# EAGLE library part OSM_1.2_SIZE_S (library Bauteile)
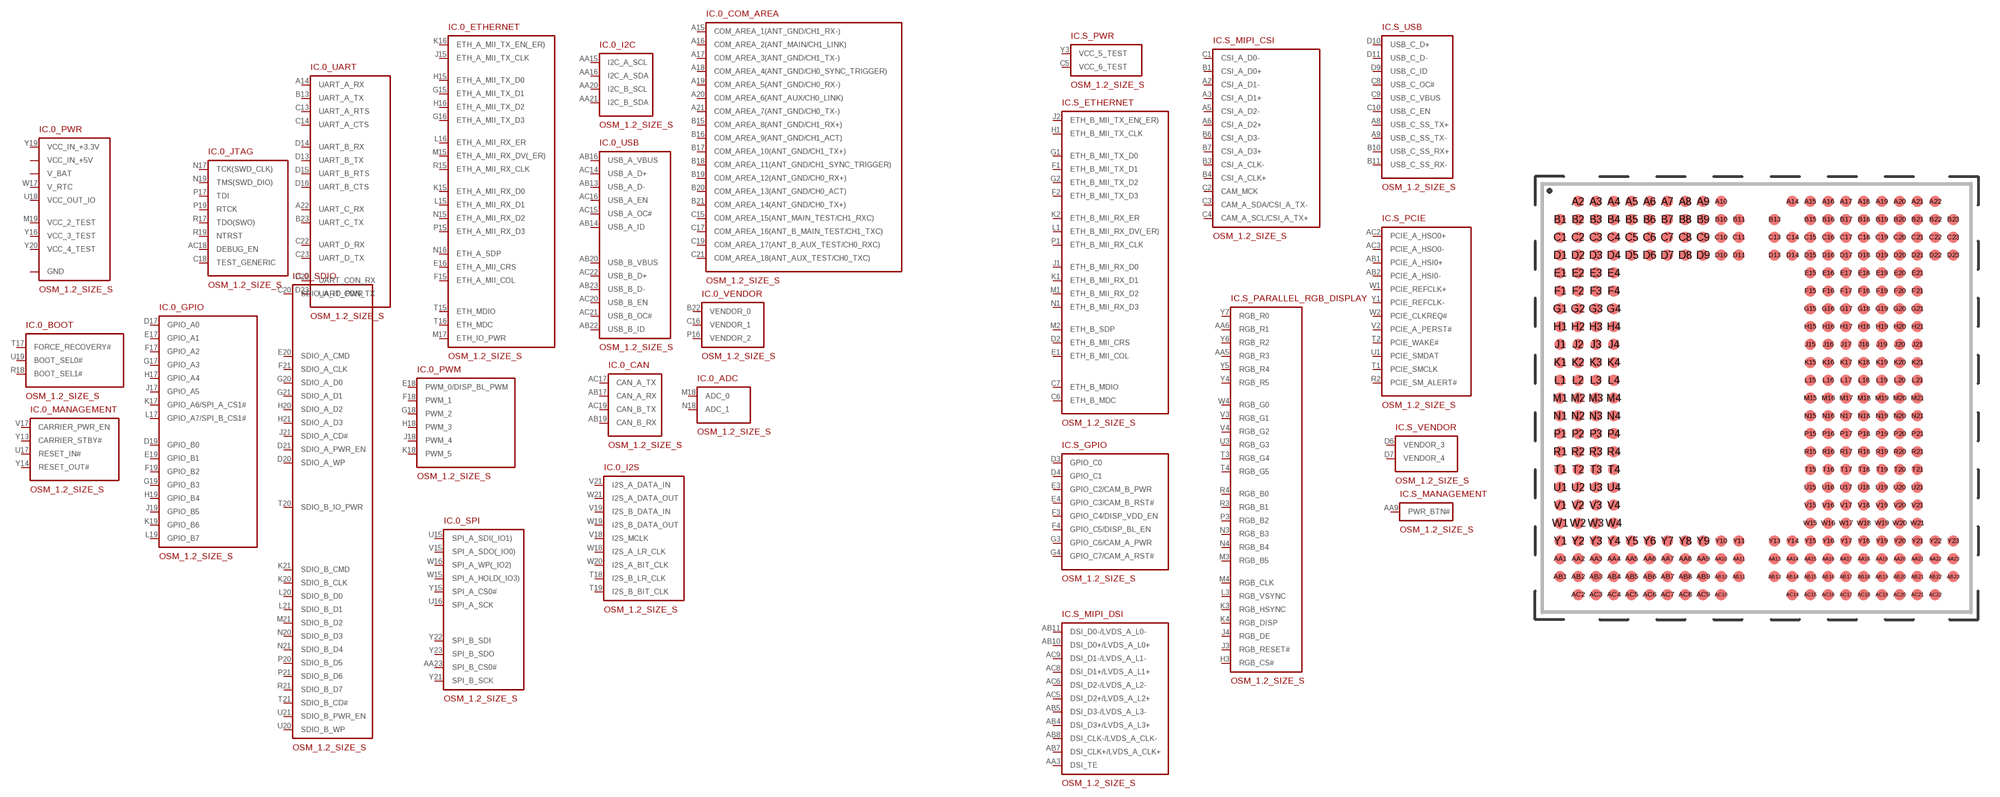
[diagram p210: symbol with the pads of OSM_1.2_SIZE_S; footprint OSM_1.2_SIZE_S]

Designator prefix IC; gates .0_PWR=OSM_1.2_SIZE_0_POWER .0_BOOT=OSM_1.2_SIZE_0_BOOT .0_JTAG=OSM_1.2_SIZE_0_JTAG .0_UART=OSM_1.2_SIZE_0_UART .0_ETHERNET=OSM_1.2_SIZE_0_ETHERNET .0_GPIO=OSM_1.2_SIZE_0_GPIO .0_SDIO=OSM_1.2_SIZE_0_SDIO .0_PWM=OSM_1.2_SIZE_0_PWM .0_ADC=OSM_1.2_SIZE_0_ADC .0_SPI=OSM_1.2_SIZE_0_SPI .0_I2S=OSM_1.2_SIZE_0_I2S .0_CAN=OSM_1.2_SIZE_0_CAN .0_USB=OSM_1.2_SIZE_0_USB .0_I2C=OSM_1.2_SIZE_0_I2C .0_COM_AREA=OSM_1.2_SIZE_0_COM_AREA .0_VENDOR=OSM_1.2_SIZE_0_VENDOR .0_MANAGEMENT=OSM_1.2_SIZE_0_MANAGEMENT .S_PWR=OSM_1.2_SIZE_S_POWER .S_ETHERNET=OSM_1.2_SIZE_S_ETHERNET .S_GPIO=OSM_1.2_SIZE_S_GPIO .S_MIPI_DSI=OSM_1.2_SIZE_S_MIPI_DSI .S_MIPI_CSI=OSM_1.2_SIZE_S_MIPI_CSI .S_PARALLEL_RGB_DISPLAY=OSM_1.2_SIZE_S_PARALLEL_RGB_DISPLAY .S_USB=OSM_1.2_SIZE_S_USB .S_PCIE=OSM_1.2_SIZE_S_PCIE .S_VENDOR=OSM_1.2_SIZE_S_VENDOR .S_MANAGEMENT=OSM_1.2_SIZE_S_MANAGEMENT

## OSM_1.2_SIZE_S  [OSM_1.2_SIZE_S]
A2  .S_MIPI_CSI:CSI_A_D1-
A3  .S_MIPI_CSI:CSI_A_D1+
A4  .0_PWR:GND
A5  .S_MIPI_CSI:CSI_A_D2-
A6  .S_MIPI_CSI:CSI_A_D2+
A7  .0_PWR:GND
A8  .S_USB:USB_C_SS_TX+
A9  .S_USB:USB_C_SS_TX-
A10  .0_PWR:GND
A14  .0_UART:UART_A_RX
A15  .0_COM_AREA:COM_AREA_1(ANT_GND/CH1_RX-)
A16  .0_COM_AREA:COM_AREA_2(ANT_MAIN/CH1_LINK)
A17  .0_COM_AREA:COM_AREA_3(ANT_GND/CH1_TX-)
A18  .0_COM_AREA:COM_AREA_4(ANT_GND/CH0_SYNC_TRIGGER)
A19  .0_COM_AREA:COM_AREA_5(ANT_GND/CH0_RX-)
A20  .0_COM_AREA:COM_AREA_6(ANT_AUX/CH0_LINK)
A21  .0_COM_AREA:COM_AREA_7(ANT_GND/CH0_TX-)
A22  .0_UART:UART_C_RX
AA1  .0_PWR:GND
AA3  .S_MIPI_DSI:DSI_TE
AA4  .0_PWR:GND
AA5  .S_PARALLEL_RGB_DISPLAY:RGB_R3
AA6  .S_PARALLEL_RGB_DISPLAY:RGB_R1
AA7  .0_PWR:GND
AA8  .0_PWR:GND
AA9  .S_MANAGEMENT:PWR_BTN#
AA10  .0_PWR:GND
AA11  .0_PWR:GND
AA14  .0_PWR:GND
AA15  .0_I2C:I2C_A_SCL
AA16  .0_I2C:I2C_A_SDA
AA17  .0_PWR:GND
AA18  .0_PWR:V_BAT
AA19  .0_PWR:GND
AA20  .0_I2C:I2C_B_SCL
AA21  .0_I2C:I2C_B_SDA
AA22  .0_PWR:GND
AA23  .0_SPI:SPI_B_CS0#
AB1  .S_PCIE:PCIE_A_HSI0+
AB2  .S_PCIE:PCIE_A_HSI0-
AB3  .0_PWR:GND
AB4  .S_MIPI_DSI:DSI_D3+/LVDS_A_L3+
AB5  .S_MIPI_DSI:DSI_D3-/LVDS_A_L3-
AB6  .0_PWR:GND
AB7  .S_MIPI_DSI:DSI_CLK+/LVDS_A_CLK+
AB8  .S_MIPI_DSI:DSI_CLK-/LVDS_A_CLK-
AB9  .0_PWR:GND
AB10  .S_MIPI_DSI:DSI_D0+/LVDS_A_L0+
AB11  .S_MIPI_DSI:DSI_D0-/LVDS_A_L0-
AB13  .0_USB:USB_A_D-
AB14  .0_USB:USB_A_ID
AB15  .0_PWR:GND
AB16  .0_USB:USB_A_VBUS
AB17  .0_CAN:CAN_A_RX
AB18  .0_PWR:V_BAT
AB19  .0_CAN:CAN_B_RX
AB20  .0_USB:USB_B_VBUS
AB21  .0_PWR:GND
AB22  .0_USB:USB_B_ID
AB23  .0_USB:USB_B_D-
AC2  .S_PCIE:PCIE_A_HSO0+
AC3  .S_PCIE:PCIE_A_HSO0-
AC4  .0_PWR:GND
AC5  .S_MIPI_DSI:DSI_D2+/LVDS_A_L2+
AC6  .S_MIPI_DSI:DSI_D2-/LVDS_A_L2-
AC7  .0_PWR:GND
AC8  .S_MIPI_DSI:DSI_D1+/LVDS_A_L1+
AC9  .S_MIPI_DSI:DSI_D1-/LVDS_A_L1-
AC10  .0_PWR:GND
AC14  .0_USB:USB_A_D+
AC15  .0_USB:USB_A_OC#
AC16  .0_USB:USB_A_EN
AC17  .0_CAN:CAN_A_TX
AC18  .0_JTAG:DEBUG_EN
AC19  .0_CAN:CAN_B_TX
AC20  .0_USB:USB_B_EN
AC21  .0_USB:USB_B_OC#
AC22  .0_USB:USB_B_D+
B1  .S_MIPI_CSI:CSI_A_D0+
B2  .0_PWR:GND
B3  .S_MIPI_CSI:CSI_A_CLK-
B4  .S_MIPI_CSI:CSI_A_CLK+
B5  .0_PWR:GND
B6  .S_MIPI_CSI:CSI_A_D3-
B7  .S_MIPI_CSI:CSI_A_D3+
B8  .0_PWR:GND
B9  .0_PWR:GND
B10  .S_USB:USB_C_SS_RX+
B11  .S_USB:USB_C_SS_RX-
B13  .0_UART:UART_A_TX
B15  .0_COM_AREA:COM_AREA_8(ANT_GND/CH1_RX+)
B16  .0_COM_AREA:COM_AREA_9(ANT_GND/CH1_ACT)
B17  .0_COM_AREA:COM_AREA_10(ANT_GND/CH1_TX+)
B18  .0_COM_AREA:COM_AREA_11(ANT_GND/CH1_SYNC_TRIGGER)
B19  .0_COM_AREA:COM_AREA_12(ANT_GND/CH0_RX+)
B20  .0_COM_AREA:COM_AREA_13(ANT_GND/CH0_ACT)
B21  .0_COM_AREA:COM_AREA_14(ANT_GND/CH0_TX+)
B22  .0_VENDOR:VENDOR_0
B23  .0_UART:UART_C_TX
C1  .S_MIPI_CSI:CSI_A_D0-
C2  .S_MIPI_CSI:CAM_MCK
C3  .S_MIPI_CSI:CAM_A_SDA/CSI_A_TX-
C4  .S_MIPI_CSI:CAM_A_SCL/CSI_A_TX+
C5  .S_PWR:VCC_6_TEST
C6  .S_ETHERNET:ETH_B_MDC
C7  .S_ETHERNET:ETH_B_MDIO
C8  .S_USB:USB_C_OC#
C9  .S_USB:USB_C_VBUS
C10  .S_USB:USB_C_EN
C11  .0_PWR:GND
C13  .0_UART:UART_A_RTS
C14  .0_UART:UART_A_CTS
C15  .0_COM_AREA:COM_AREA_15(ANT_MAIN_TEST/CH1_RXC)
C16  .0_VENDOR:VENDOR_1
C17  .0_COM_AREA:COM_AREA_16(ANT_B_MAIN_TEST/CH1_TXC)
C18  .0_JTAG:TEST_GENERIC
C19  .0_COM_AREA:COM_AREA_17(ANT_B_AUX_TEST/CH0_RXC)
C20  .0_SDIO:SDIO_A_IO_PWR
C21  .0_COM_AREA:COM_AREA_18(ANT_AUX_TEST/CH0_TXC)
C22  .0_UART:UART_D_RX
C23  .0_UART:UART_D_TX
D1  .0_PWR:GND
D2  .S_ETHERNET:ETH_B_MII_CRS
D3  .S_GPIO:GPIO_C0
D4  .S_GPIO:GPIO_C1
D5  .0_PWR:GND
D6  .S_VENDOR:VENDOR_3
D7  .S_VENDOR:VENDOR_4
D8  .0_PWR:GND
D9  .S_USB:USB_C_ID
D10  .S_USB:USB_C_D+
D11  .S_USB:USB_C_D-
D13  .0_UART:UART_B_TX
D14  .0_UART:UART_B_RX
D15  .0_UART:UART_B_RTS
D16  .0_UART:UART_B_CTS
D17  .0_GPIO:GPIO_A0
D18  .0_PWR:GND
D19  .0_GPIO:GPIO_B0
D20  .0_SDIO:SDIO_A_WP
D21  .0_SDIO:SDIO_A_PWR_EN
D22  .0_UART:UART_CON_RX
D23  .0_UART:UART_CON_TX
E1  .S_ETHERNET:ETH_B_MII_COL
E2  .0_PWR:GND
E3  .S_GPIO:GPIO_C2/CAM_B_PWR
E4  .S_GPIO:GPIO_C3/CAM_B_RST#
E15  .0_PWR:GND
E16  .0_ETHERNET:ETH_A_MII_CRS
E17  .0_GPIO:GPIO_A1
E18  .0_PWM:PWM_0/DISP_BL_PWM
E19  .0_GPIO:GPIO_B1
E20  .0_SDIO:SDIO_A_CMD
E21  .0_PWR:GND
F1  .S_ETHERNET:ETH_B_MII_TX_D1
F2  .S_ETHERNET:ETH_B_MII_TX_D3
F3  .S_GPIO:GPIO_C4/DISP_VDD_EN
F4  .S_GPIO:GPIO_C5/DISP_BL_EN
F15  .0_ETHERNET:ETH_A_MII_COL
F16  .0_PWR:GND
F17  .0_GPIO:GPIO_A2
F18  .0_PWM:PWM_1
F19  .0_GPIO:GPIO_B2
F20  .0_PWR:GND
F21  .0_SDIO:SDIO_A_CLK
G1  .S_ETHERNET:ETH_B_MII_TX_D0
G2  .S_ETHERNET:ETH_B_MII_TX_D2
G3  .S_GPIO:GPIO_C6/CAM_A_PWR
G4  .S_GPIO:GPIO_C7/CAM_A_RST#
G15  .0_ETHERNET:ETH_A_MII_TX_D1
G16  .0_ETHERNET:ETH_A_MII_TX_D3
G17  .0_GPIO:GPIO_A3
G18  .0_PWM:PWM_2
G19  .0_GPIO:GPIO_B3
G20  .0_SDIO:SDIO_A_D0
G21  .0_SDIO:SDIO_A_D1
H1  .S_ETHERNET:ETH_B_MII_TX_CLK
H2  .0_PWR:GND
H3  .S_PARALLEL_RGB_DISPLAY:RGB_CS#
H4  .0_PWR:GND
H15  .0_ETHERNET:ETH_A_MII_TX_D0
H16  .0_ETHERNET:ETH_A_MII_TX_D2
H17  .0_GPIO:GPIO_A4
H18  .0_PWM:PWM_3
H19  .0_GPIO:GPIO_B4
H20  .0_SDIO:SDIO_A_D2
H21  .0_SDIO:SDIO_A_D3
J1  .S_ETHERNET:ETH_B_MII_RX_D0
J2  .S_ETHERNET:ETH_B_MII_TX_EN(_ER)
J3  .S_PARALLEL_RGB_DISPLAY:RGB_RESET#
J4  .S_PARALLEL_RGB_DISPLAY:RGB_DE
J15  .0_ETHERNET:ETH_A_MII_TX_CLK
J16  .0_PWR:GND
J17  .0_GPIO:GPIO_A5
J18  .0_PWM:PWM_4
J19  .0_GPIO:GPIO_B5
J20  .0_PWR:GND
J21  .0_SDIO:SDIO_A_CD#
K1  .S_ETHERNET:ETH_B_MII_RX_D1
K2  .S_ETHERNET:ETH_B_MII_RX_ER
K3  .S_PARALLEL_RGB_DISPLAY:RGB_HSYNC
K4  .S_PARALLEL_RGB_DISPLAY:RGB_DISP
K15  .0_ETHERNET:ETH_A_MII_RX_D0
K16  .0_ETHERNET:ETH_A_MII_TX_EN(_ER)
K17  .0_GPIO:GPIO_A6/SPI_A_CS1#
K18  .0_PWM:PWM_5
K19  .0_GPIO:GPIO_B6
K20  .0_SDIO:SDIO_B_CLK
K21  .0_SDIO:SDIO_B_CMD
L1  .S_ETHERNET:ETH_B_MII_RX_DV(_ER)
L2  .0_PWR:GND
L3  .S_PARALLEL_RGB_DISPLAY:RGB_VSYNC
L4  .0_PWR:GND
L15  .0_ETHERNET:ETH_A_MII_RX_D1
L16  .0_ETHERNET:ETH_A_MII_RX_ER
L17  .0_GPIO:GPIO_A7/SPI_B_CS1#
L18  .0_PWR:GND
L19  .0_GPIO:GPIO_B7
L20  .0_SDIO:SDIO_B_D0
L21  .0_SDIO:SDIO_B_D1
M1  .S_ETHERNET:ETH_B_MII_RX_D2
M2  .S_ETHERNET:ETH_B_SDP
M3  .S_PARALLEL_RGB_DISPLAY:RGB_B5
M4  .S_PARALLEL_RGB_DISPLAY:RGB_CLK
M15  .0_ETHERNET:ETH_A_MII_RX_DV(_ER)
M16  .0_PWR:GND
M17  .0_ETHERNET:ETH_IO_PWR
M18  .0_ADC:ADC_0
M19  .0_PWR:VCC_2_TEST
M20  .0_PWR:GND
M21  .0_SDIO:SDIO_B_D2
N1  .S_ETHERNET:ETH_B_MII_RX_D3
N3  .S_PARALLEL_RGB_DISPLAY:RGB_B3
N4  .S_PARALLEL_RGB_DISPLAY:RGB_B4
N15  .0_ETHERNET:ETH_A_MII_RX_D2
N16  .0_ETHERNET:ETH_A_SDP
N17  .0_JTAG:TCK(SWD_CLK)
N18  .0_ADC:ADC_1
N19  .0_JTAG:TMS(SWD_DIO)
N20  .0_SDIO:SDIO_B_D3
N21  .0_SDIO:SDIO_B_D4
P1  .S_ETHERNET:ETH_B_MII_RX_CLK
P2  .0_PWR:GND
P3  .S_PARALLEL_RGB_DISPLAY:RGB_B2
P4  .0_PWR:GND
P15  .0_ETHERNET:ETH_A_MII_RX_D3
P16  .0_VENDOR:VENDOR_2
P17  .0_JTAG:TDI
P18  .0_PWR:GND
P19  .0_JTAG:RTCK
P20  .0_SDIO:SDIO_B_D5
P21  .0_SDIO:SDIO_B_D6
R1  .0_PWR:GND
R2  .S_PCIE:PCIE_SM_ALERT#
R3  .S_PARALLEL_RGB_DISPLAY:RGB_B1
R4  .S_PARALLEL_RGB_DISPLAY:RGB_B0
R15  .0_ETHERNET:ETH_A_MII_RX_CLK
R16  .0_PWR:GND
R17  .0_JTAG:TDO(SWO)
R18  .0_BOOT:BOOT_SEL1#
R19  .0_JTAG:NTRST
R20  .0_PWR:GND
R21  .0_SDIO:SDIO_B_D7
T1  .S_PCIE:PCIE_SMCLK
T2  .S_PCIE:PCIE_WAKE#
T3  .S_PARALLEL_RGB_DISPLAY:RGB_G4
T4  .S_PARALLEL_RGB_DISPLAY:RGB_G5
T15  .0_ETHERNET:ETH_MDIO
T16  .0_ETHERNET:ETH_MDC
T17  .0_BOOT:FORCE_RECOVERY#
T18  .0_I2S:I2S_B_LR_CLK
T19  .0_I2S:I2S_B_BIT_CLK
T20  .0_SDIO:SDIO_B_IO_PWR
T21  .0_SDIO:SDIO_B_CD#
U1  .S_PCIE:PCIE_SMDAT
U2  .0_PWR:GND
U3  .S_PARALLEL_RGB_DISPLAY:RGB_G3
U4  .0_PWR:GND
U15  .0_SPI:SPI_A_SDI(_IO1)
U16  .0_SPI:SPI_A_SCK
U17  .0_MANAGEMENT:RESET_IN#
U18  .0_PWR:VCC_OUT_IO
U19  .0_BOOT:BOOT_SEL0#
U20  .0_SDIO:SDIO_B_WP
U21  .0_SDIO:SDIO_B_PWR_EN
V1  .0_PWR:GND
V2  .S_PCIE:PCIE_A_PERST#
V3  .S_PARALLEL_RGB_DISPLAY:RGB_G1
V4  .S_PARALLEL_RGB_DISPLAY:RGB_G2
V15  .0_SPI:SPI_A_SDO(_IO0)
V16  .0_PWR:GND
V17  .0_MANAGEMENT:CARRIER_PWR_EN
V18  .0_I2S:I2S_MCLK
V19  .0_I2S:I2S_B_DATA_IN
V20  .0_PWR:GND
V21  .0_I2S:I2S_A_DATA_IN
W1  .S_PCIE:PCIE_REFCLK+
W2  .S_PCIE:PCIE_CLKREQ#
W3  .0_PWR:GND
W4  .S_PARALLEL_RGB_DISPLAY:RGB_G0
W15  .0_SPI:SPI_A_HOLD(_IO3)
W16  .0_SPI:SPI_A_WP(_IO2)
W17  .0_PWR:V_RTC
W18  .0_I2S:I2S_A_LR_CLK
W19  .0_I2S:I2S_B_DATA_OUT
W20  .0_I2S:I2S_A_BIT_CLK
W21  .0_I2S:I2S_A_DATA_OUT
Y1  .S_PCIE:PCIE_REFCLK-
Y2  .0_PWR:GND
Y3  .S_PWR:VCC_5_TEST
Y4  .S_PARALLEL_RGB_DISPLAY:RGB_R5
Y5  .S_PARALLEL_RGB_DISPLAY:RGB_R4
Y6  .S_PARALLEL_RGB_DISPLAY:RGB_R2
Y7  .S_PARALLEL_RGB_DISPLAY:RGB_R0
Y8  .0_PWR:VCC_IN_+5V
Y9  .0_PWR:VCC_IN_+5V
Y10  .0_PWR:VCC_IN_+5V
Y11  .0_PWR:VCC_IN_+5V
Y13  .0_MANAGEMENT:CARRIER_STBY#
Y14  .0_MANAGEMENT:RESET_OUT#
Y15  .0_SPI:SPI_A_CS0#
Y16  .0_PWR:VCC_3_TEST
Y17  .0_PWR:VCC_IN_+5V
Y18  .0_PWR:GND
Y19  .0_PWR:VCC_IN_+3.3V
Y20  .0_PWR:VCC_4_TEST
Y21  .0_SPI:SPI_B_SCK
Y22  .0_SPI:SPI_B_SDI
Y23  .0_SPI:SPI_B_SDO

## Footprint OSM_1.2_SIZE_S (pad centres in mm)
smd 0.8 x 0.8: A2 -12.5,13.75; A3 -11.25,13.75; A4 -10,13.75; A5 -8.75,13.75; A6 -7.5,13.75; A7 -6.25,13.75; A8 -5,13.75; A9 -3.75,13.75; A10 -2.5,13.75; A14 2.5,13.75; A15 3.75,13.75; A16 5,13.75; A17 6.25,13.75; A18 7.5,13.75; A19 8.75,13.75; A20 10,13.75; A21 11.25,13.75; A22 12.5,13.75; AA1 -13.75,-11.25; AA2 -12.5,-11.25; AA3 -11.25,-11.25; AA4 -10,-11.25; AA5 -8.75,-11.25; AA6 -7.5,-11.25; AA7 -6.25,-11.25; AA8 -5,-11.25; AA9 -3.75,-11.25; AA10 -2.5,-11.25; AA11 -1.25,-11.25; AA13 1.25,-11.25; AA14 2.5,-11.25; AA15 3.75,-11.25; AA16 5,-11.25; AA17 6.25,-11.25; AA18 7.5,-11.25; AA19 8.75,-11.25; AA20 10,-11.25; AA21 11.25,-11.25; AA22 12.5,-11.25; AA23 13.75,-11.25; AB1 -13.75,-12.5; AB2 -12.5,-12.5; AB3 -11.25,-12.5; AB4 -10,-12.5; AB5 -8.75,-12.5; AB6 -7.5,-12.5; AB7 -6.25,-12.5; AB8 -5,-12.5; AB9 -3.75,-12.5; AB10 -2.5,-12.5; AB11 -1.25,-12.5; AB13 1.25,-12.5; AB14 2.5,-12.5; AB15 3.75,-12.5; AB16 5,-12.5; AB17 6.25,-12.5; AB18 7.5,-12.5; AB19 8.75,-12.5; AB20 10,-12.5; AB21 11.25,-12.5; AB22 12.5,-12.5; AB23 13.75,-12.5; AC2 -12.5,-13.75; AC3 -11.25,-13.75; AC4 -10,-13.75; AC5 -8.75,-13.75; AC6 -7.5,-13.75; AC7 -6.25,-13.75; AC8 -5,-13.75; AC9 -3.75,-13.75; AC10 -2.5,-13.75; AC14 2.5,-13.75; AC15 3.75,-13.75; AC16 5,-13.75; AC17 6.25,-13.75; AC18 7.5,-13.75; AC19 8.75,-13.75; AC20 10,-13.75; AC21 11.25,-13.75; AC22 12.5,-13.75; B1 -13.75,12.5; B2 -12.5,12.5; B3 -11.25,12.5; B4 -10,12.5; B5 -8.75,12.5; B6 -7.5,12.5; B7 -6.25,12.5; B8 -5,12.5; B9 -3.75,12.5; B10 -2.5,12.5; B11 -1.25,12.5; B13 1.25,12.5; B15 3.75,12.5; B16 5,12.5; B17 6.25,12.5; B18 7.5,12.5; B19 8.75,12.5; B20 10,12.5; B21 11.25,12.5; B22 12.5,12.5; B23 13.75,12.5; C1 -13.75,11.25; C2 -12.5,11.25; C3 -11.25,11.25; C4 -10,11.25; C5 -8.75,11.25; C6 -7.5,11.25; C7 -6.25,11.25; C8 -5,11.25; C9 -3.75,11.25; C10 -2.5,11.25; C11 -1.25,11.25; C13 1.25,11.25; C14 2.5,11.25; C15 3.75,11.25; C16 5,11.25; C17 6.25,11.25; C18 7.5,11.25; C19 8.75,11.25; C20 10,11.25; C21 11.25,11.25; C22 12.5,11.25; C23 13.75,11.25; D1 -13.75,10; D2 -12.5,10; D3 -11.25,10; D4 -10,10; D5 -8.75,10; D6 -7.5,10; D7 -6.25,10; D8 -5,10; D9 -3.75,10; D10 -2.5,10; D11 -1.25,10; D13 1.25,10; D14 2.5,10; D15 3.75,10; D16 5,10; D17 6.25,10; D18 7.5,10; D19 8.75,10; D20 10,10; D21 11.25,10; D22 12.5,10; D23 13.75,10; E1 -13.75,8.75; E2 -12.5,8.75; E3 -11.25,8.75; E4 -10,8.75; E15 3.75,8.75; E16 5,8.75; E17 6.25,8.75; E18 7.5,8.75; E19 8.75,8.75; E20 10,8.75; E21 11.25,8.75; F1 -13.75,7.5; F2 -12.5,7.5; F3 -11.25,7.5; F4 -10,7.5; F15 3.75,7.5; F16 5,7.5; F17 6.25,7.5; F18 7.5,7.5; F19 8.75,7.5; F20 10,7.5; F21 11.25,7.5; G1 -13.75,6.25; G2 -12.5,6.25; G3 -11.25,6.25; G4 -10,6.25; G15 3.75,6.25; G16 5,6.25; G17 6.25,6.25; G18 7.5,6.25; G19 8.75,6.25; G20 10,6.25; G21 11.25,6.25; H1 -13.75,5; H2 -12.5,5; H3 -11.25,5; H4 -10,5; H15 3.75,5; H16 5,5; H17 6.25,5; H18 7.5,5; H19 8.75,5; H20 10,5; H21 11.25,5; J1 -13.75,3.75; J2 -12.5,3.75; J3 -11.25,3.75; J4 -10,3.75; J15 3.75,3.75; J16 5,3.75; J17 6.25,3.75; J18 7.5,3.75; J19 8.75,3.75; J20 10,3.75; J21 11.25,3.75; K1 -13.75,2.5; K2 -12.5,2.5; K3 -11.25,2.5; K4 -10,2.5; K15 3.75,2.5; K16 5,2.5; K17 6.25,2.5; K18 7.5,2.5; K19 8.75,2.5; K20 10,2.5; K21 11.25,2.5; L1 -13.75,1.25; L2 -12.5,1.25; L3 -11.25,1.25; L4 -10,1.25; L15 3.75,1.25; L16 5,1.25; L17 6.25,1.25; L18 7.5,1.25; L19 8.75,1.25; L20 10,1.25; L21 11.25,1.25; M1 -13.75,0; M2 -12.5,0; M3 -11.25,0; M4 -10,0; M15 3.75,0; M16 5,0; M17 6.25,0; M18 7.5,0; M19 8.75,0; M20 10,0; M21 11.25,0; N1 -13.75,-1.25; N2 -12.5,-1.25; N3 -11.25,-1.25; N4 -10,-1.25; N15 3.75,-1.25; N16 5,-1.25; N17 6.25,-1.25; N18 7.5,-1.25; N19 8.75,-1.25; N20 10,-1.25; N21 11.25,-1.25; P1 -13.75,-2.5; P2 -12.5,-2.5; P3 -11.25,-2.5; P4 -10,-2.5; P15 3.75,-2.5; P16 5,-2.5; P17 6.25,-2.5; P18 7.5,-2.5; P19 8.75,-2.5; P20 10,-2.5; P21 11.25,-2.5; R1 -13.75,-3.75; R2 -12.5,-3.75; R3 -11.25,-3.75; R4 -10,-3.75; R15 3.75,-3.75; R16 5,-3.75; R17 6.25,-3.75; R18 7.5,-3.75; R19 8.75,-3.75; R20 10,-3.75; R21 11.25,-3.75; T1 -13.75,-5; T2 -12.5,-5; T3 -11.25,-5; T4 -10,-5; T15 3.75,-5; T16 5,-5; T17 6.25,-5; T18 7.5,-5; T19 8.75,-5; T20 10,-5; T21 11.25,-5; U1 -13.75,-6.25; U2 -12.5,-6.25; U3 -11.25,-6.25; U4 -10,-6.25; U15 3.75,-6.25; U16 5,-6.25; U17 6.25,-6.25; U18 7.5,-6.25; U19 8.75,-6.25; U20 10,-6.25; U21 11.25,-6.25; V1 -13.75,-7.5; V2 -12.5,-7.5; V3 -11.25,-7.5; V4 -10,-7.5; V15 3.75,-7.5; V16 5,-7.5; V17 6.25,-7.5; V18 7.5,-7.5; V19 8.75,-7.5; V20 10,-7.5; V21 11.25,-7.5; W1 -13.75,-8.75; W2 -12.5,-8.75; W3 -11.25,-8.75; W4 -10,-8.75; W15 3.75,-8.75; W16 5,-8.75; W17 6.25,-8.75; W18 7.5,-8.75; W19 8.75,-8.75; W20 10,-8.75; W21 11.25,-8.75; Y1 -13.75,-10; Y2 -12.5,-10; Y3 -11.25,-10; Y4 -10,-10; Y5 -8.75,-10; Y6 -7.5,-10; Y7 -6.25,-10; Y8 -5,-10; Y9 -3.75,-10; Y10 -2.5,-10; Y11 -1.25,-10; Y13 1.25,-10; Y14 2.5,-10; Y15 3.75,-10; Y16 5,-10; Y17 6.25,-10; Y18 7.5,-10; Y19 8.75,-10; Y20 10,-10; Y21 11.25,-10; Y22 12.5,-10; Y23 13.75,-10